# Altium footprint library PCB_LIB.PcbLib: 86 footprints (part 3 of 6)
Each footprint in its own frame and in the unit in brackets; x right, y up, seen from the top. Pads: shape width x height; smd on the part's side, far side on the other; paste and mask are expansions set on the pad; w line width, h text height; cw(c..) or ccw(c..) is an arc to the next point about the centre after c.
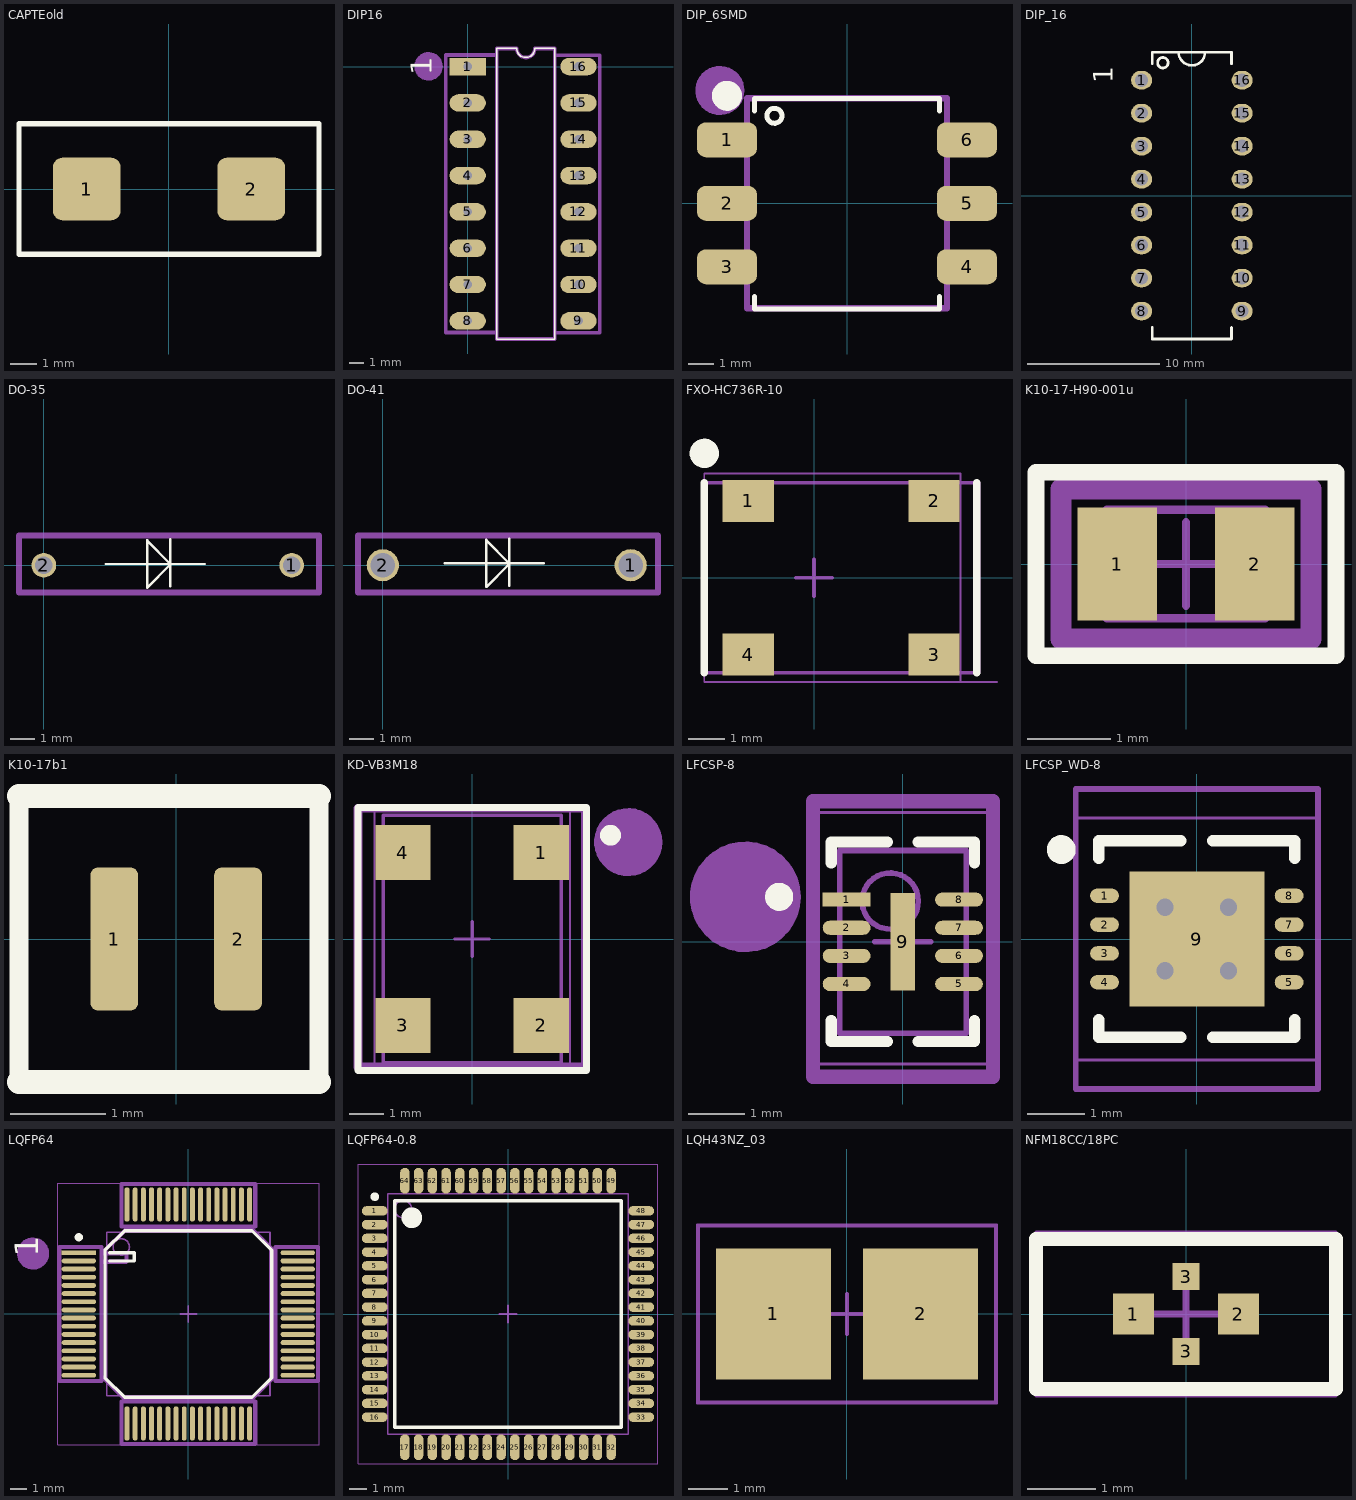
[diagram p2: the footprints below, top view; thin cyan lines are the x and y axes]

## CAPTEold [mm]
pads (2):
  rrect30% 2.6x2.4 smd: 1(-3.15,0) 2(3.15,0)
Top Overlay:
  lines w0.2: -5.75,-2.5 5.75,-2.5 5.75,2.5 -5.75,2.5 -5.75,0 -5.75,-2.5
Top Designator (Mech16):
  text ".Designator" at -5.15,-0.547 h2.5

## DIP16 [mm]
pads (16):
  rect 2.5x1.2 hole 0.6: 1(0,0)
  oval 2.5x1.2 hole 0.6: 2(0,-2.5) 3(0,-5) 4(0,-7.5) 5(0,-10) 6(0,-12.5) 7(0,-15) 8(0,-17.5) 9(7.62,-17.5) 10(7.62,-15) 11(7.62,-12.5) 12(7.62,-10) 13(7.62,-7.5) 14(7.62,-5) 15(7.62,-2.5) 16(7.62,0)
Top Overlay:
  lines w0.1: 2,-18.75 2,1.25 3.375,1.25 ccw(c4,1.25) 4.625,1.25 6,1.25 6,-18.75 2,-18.75
  text "1" at -2,-0.6 h2.5
Top Sborka:
  circle w0.6: c-2.992,0.019 r0.3
  circle w0.25: c-2.692,0.019 r0.09
  circle w0.25: c-2.692,0.019 r0.506
  circle w0.25: c-2.692,0.019 r0.861
  circle w0.25: c-2.692,0.019 r0.292
  circle w0.25: c-2.692,0.019 r0.704
  lines w0.25: -1.5,-18.3 -1.5,0.8 2,0.8 2,-18.3 -1.5,-18.3 ; 2,-18.75 2,1.25 3.375,1.25 ccw(c4,1.25) 4.625,1.25 6,1.25 6,-18.75 2,-18.75 ; 5.999,-18.308 9.1,-18.308 9.1,0.792 5.999,0.792 5.999,-18.308
Top Designator (Mech16):
  text ".Designator" at -1.6,-9.247 h2.5
3D body "dip-16.step": height 5.4, standoff 0, extent -0.16,-18.95 7.76,1.55

## DIP_6SMD [mm] "DIP6 SMD Package"
pads (6):
  rrect50% 2.4x1.4 smd: 1(-4.8,2.54) 2(-4.8,0) 3(-4.8,-2.54) 4(4.8,-2.54) 5(4.8,0) 6(4.8,2.54)
Top Overlay:
  circle w0.6: c-4.8,4.3 r0.3
  circle w0.2: c-2.9,3.5 r0.3
  lines w0.2: -3.7,-3.73 -3.7,-4.23 3.7,-4.23 3.7,-3.73 ; -3.7,3.7 -3.7,4.2 3.7,4.2 3.7,3.7
Top Sborka:
  circle w0.6: c-5.386,4.511 r0.3
  circle w0.25: c-5.086,4.511 r0.09
  circle w0.25: c-5.086,4.511 r0.506
  circle w0.25: c-5.086,4.511 r0.861
  circle w0.25: c-5.086,4.511 r0.292
  circle w0.25: c-5.086,4.511 r0.704
  lines w0.25: -4,-4.2 4,-4.2 4,4.2 -4,4.2 -4,-4.2
Top Designator (Mech16):
  text ".Designator" at -5.15,0.036 h2.5
3D body "User Library-N06C.step": height 3.82, standoff 0, extent -4.94,-3.56 4.94,3.56

## DIP_16 [mm] "DIP, pitch 2.54mm, 300mil Width"
pads (16):
  oval 1.6x1.4 / inner round 1.4 / far side oval 2.2x1.4 hole 1: 1(-3.81,8.75) 2(-3.81,6.25) 3(-3.81,3.75) 4(-3.81,1.25) 5(-3.81,-1.25) 6(-3.81,-3.75) 7(-3.81,-6.25) 8(-3.81,-8.75) 9(3.81,-8.75) 10(3.81,-6.25) 11(3.81,-3.75) 12(3.81,-1.25) 13(3.81,1.25) 14(3.81,3.75) 15(3.81,6.25) 16(3.81,8.75)
Top Overlay:
  circle w0.2: c-2.2,10.07 r0.4
  lines w0.2: -3,-10 -3,-10.87 3,-10.87 3,-10 ; -3,10 -3,10.87 3,10.87 3,10 ; -1,10.87 ccw(c0,10.87) 1,10.87
  text "1" at -5.5,8.5 h2.5
Top Designator (Mech16):
  text ".Designator" at -5.15,-0.572 h2.5
3D body "CircuitWorks-DIP 16 IC.step": height 5.1, standoff -3.3, extent -3.935,-10 3.935,10

## DO-35 [mm]
pads (2):
  round 1 / inner round 1 / far side oval 1.7x1 hole 0.7: 1(10,0) 2(0,0)
Top Overlay:
  lines w0.1: 2.5,0.05 6.5,0.05 ; 5.1,-0.85 5.1,1.05 ; 4.175,-0.9 5.1,0.025 5.1,0.05 4.175,0.975 4.175,1 4.175,0.05 4.175,-0.9
Top Sborka:
  lines w0.1: 4.175,0.975 4.175,1
  lines w0.25: -1,-1.1 11.1,-1.1 11.1,1.2 -1,1.2 -1,-1.1
Top Designator (Mech16):
  text ".Designator" at -0.1,-0.497 h2.5

## DO-41 [mm]
pads (2):
  round 1.3 / inner round 1.3 / far side oval 2x1.3 hole 1: 1(10,0) 2(0,0)
Top Overlay:
  lines w0.1: 2.5,0.075 6.5,0.075 ; 5.1,-0.825 5.1,1.075 ; 4.175,-0.875 4.175,0.075 4.175,1.025 4.175,1 5.1,0.075 5.1,0.05 4.175,-0.875
Top Sborka:
  lines w0.1: 4.175,1 4.175,1.025
  lines w0.25: -1,-1.1 -1,1.2 11.1,1.2 11.1,-1.1 -1,-1.1
Top Designator (Mech16):
  text ".Designator" at -0.075,-0.472 h2.5

## FXO-HC736R-10 [mm] "DFN, 4-Leads, Body 4,95x7,10mm, Pitch 5,08mm, IPC Medium Density"
height 1.4
pads (4):
  rect 1.4x1.15 smd: 1(-1.8,2.1) 2(3.28,2.1) 3(3.28,-2.1) 4(-1.8,-2.1)
Top Overlay:
  circle w0.4: c-3,3.4 r0.2
  lines w0.2: -3,-2.6 -3,2.6 ; 4.45,-2.6 4.45,2.6
Top Sborka:
  lines w0.1: -3,-2.6 4.5,-2.6 4.5,2.6 -3,2.6 -3,-2.6
Mechanical 15:
  lines w0.05: 4,-2.85 4,2.85 -3,2.85 -3,-2.85 5,-2.85
  lines w0.1: -0.5,0 0.5,0 ; 0,-0.5 0,0.5
Top Designator (Mech16):
  text ".Designator" at -5.15,-0.547 h2.5

## K10-17-H90-001u [mm] "Chip Capacitor, 2-Leads, Body 1,60x1,15mm, IPC Medium Density"
height 1
pads (2):
  rect 0.95x1.35 smd: 1(-0.825,0) 2(0.825,0)
Top Overlay:
  lines w0.2: -1.8,-1.1 1.8,-1.1 1.8,1.1 -1.8,1.1 -1.8,-1.1
Top Sborka:
  lines w0.25: -1.5,-0.9 1.5,-0.9 1.5,0.9 -1.5,0.9 -1.5,-0.9
Mechanical 13:
  lines w0.1: -0.95,-0.65 0.95,-0.65 0.95,0.65 -0.95,0.65 -0.95,-0.65
Mechanical 15:
  lines w0.05: -1.55,-0.95 1.55,-0.95 1.55,0.95 -1.55,0.95 -1.55,-0.95
  lines w0.1: -0.5,0 0.5,0 ; 0,-0.5 0,0.5
Top Designator (Mech16):
  text ".Designator" at -5.15,-0.547 h2.5
3D body "K10-17-H90-001u.step": height 1, standoff 0, extent -0.95,-0.65 0.95,0.65

## K10-17b1 [mm]
pads (2):
  rrect30% 0.5x1.5 smd: 1(-0.65,0) 2(0.65,0)
Top Overlay:
  lines w0.2: -1.65,-1.5 -1.65,1 -1.65,1.5 ; 1.5,-1.5 1.5,1.5
  lines w0.254: -1.65,-1.5 1.5,-1.5 ; -1.65,1.5 1.5,1.5
Top Designator (Mech16):
  text ".Designator" at -5.225,-0.547 h2.5

## KD-VB3M18 [mm]
height 1.75
pads (4):
  rect 1.6x1.6 smd: 1(2,2.5) 2(2,-2.5) 3(-2,-2.5) 4(-2,2.5)
Top Overlay:
  circle w0.5: c4,3 r0.05
  lines w0.2: -3.3,-3.8 -3.3,3.8 3.3,3.8 3.3,-3.8 -3.3,-3.8
Top Sborka:
  circle w0.25: c4.51,2.8 r0.704
  circle w0.25: c4.51,2.8 r0.292
  circle w0.25: c4.51,2.8 r0.861
  circle w0.25: c4.51,2.8 r0.506
  circle w0.25: c4.51,2.8 r0.09
  lines w0.25: -3.3,-3.7 3.275,-3.7 3.275,3.775 -3.3,3.775 -3.3,-3.7
Mechanical 13:
  lines w0.1: -2.575,-3.575 -2.575,3.575 2.575,3.575 2.575,-3.575 -2.575,-3.575
Mechanical 15:
  lines w0.05: -2.825,-3.825 -2.825,3.825 2.825,3.825 2.825,-3.825 -2.825,-3.825
  lines w0.1: -0.5,0 0.5,0 ; 0,-0.5 0,0.5
Top Designator (Mech16):
  text ".Designator" at -5.15,-0.547 h2.5
3D body: height 1.75, standoff 0, extent -2.575,-3.575 2.575,3.575

## LFCSP-8 [mm] "QFN, 8-Leads, Body 2,00x3,00mm, Pitch 0,50mm, Thermal Pad 0,00x1,74mm, IPC Medium Density"
height 0.8
pads (9):
  rect 0.85x0.25 smd: 1(-1,0.75)
  oval 0.85x0.25 smd: 2(-1,0.25) 3(-1,-0.25) 4(-1,-0.75) 5(1,-0.75) 6(1,-0.25) 7(1,0.25) 8(1,0.75)
  rect 0.44x1.74 smd: 9(0,0)
Top Overlay:
  circle w0.25: c-2.2,0.8 r0.125
  lines w0.2: -1.275,-1.4 -1.275,-1.775 -0.275,-1.775 ; -1.275,1.4 -1.275,1.775 -0.275,1.775 ; 0.275,-1.775 1.275,-1.775 1.275,-1.4 ; 0.275,1.775 1.275,1.775 1.275,1.4
Top Sborka:
  circle w0.8: c-2.8,0.8 r0.4
  circle w0.6: c-2.8,0.8 r0.3
  circle w0.25: c-2.8,0.8 r0.09
  circle w0.25: c-2.8,0.8 r0.506
  circle w0.25: c-2.8,0.8 r0.861
  circle w0.25: c-2.8,0.8 r0.292
  circle w0.25: c-2.8,0.8 r0.704
  lines w0.25: -1.6,-2.4 1.6,-2.4 1.6,2.5 -1.6,2.5 -1.6,-2.4
Mechanical 13:
  circle w0.1: c-0.225,0.725 r0.5
  lines w0.1: -1.125,-1.625 -1.125,1.625 1.125,1.625 1.125,-1.625 -1.125,-1.625
Mechanical 15:
  lines w0.05: -1.675,-2.175 -1.675,2.3 1.675,2.3 1.675,-2.175 -1.675,-2.175
  lines w0.1: -0.5,0 0.5,0 ; 0,-0.5 0,0.5
Top Designator (Mech16):
  text ".Designator" at 0.547,-5.05 h2.5
3D body "LFCSP-8.step": height 0.8, standoff 0, extent -1.175,-1.625 1.175,1.625

## LFCSP_WD-8 [mm] "QFN, 8-Leads, Body 3,00x3,00mm, Pitch 0,50mm, Thermal Pad 2,34x2,34mm, IPC Medium Density"
height 0.8
pads (9):
  oval 0.5x0.25 smd: 1(-1.6,0.75) 2(-1.6,0.25) 3(-1.6,-0.25) 4(-1.6,-0.75) 5(1.6,-0.75) 6(1.6,-0.25) 7(1.6,0.25) 8(1.6,0.75)
  rect 2.34x2.34 smd: 9(0,0)
via 0.55,-0.55 diameter 0.3 hole 0.3
via -0.55,-0.55 diameter 0.3 hole 0.3
via 0.55,0.55 diameter 0.3 hole 0.3
via -0.55,0.55 diameter 0.3 hole 0.3
Top Overlay:
  circle w0.25: c-2.35,1.55 r0.125
  lines w0.2: -1.7,-1.4 -1.7,-1.7 -0.275,-1.7 ; -1.7,1.4 -1.7,1.7 -0.275,1.7 ; 0.275,-1.7 1.7,-1.7 1.7,-1.4 ; 0.275,1.7 1.7,1.7 1.7,1.4
Top Sborka:
  lines w0.1: -2.1,-2.6 -2.1,2.6 2.1,2.6 2.1,-2.6 -2.1,-2.6
Mechanical 15:
  lines w0.05: -2.1,-2.1 2.1,-2.1 2.1,2.1 -2.1,2.1 -2.1,-2.1
  lines w0.1: -0.5,0 0.5,0 ; 0,-0.5 0,0.5
Top Designator (Mech16):
  text ".Designator" at -5.15,-0.547 h2.5
3D body "LFCSP_WD-8.step": height 0.8, standoff 0, extent -1.55,-1.55 1.55,1.55

## LQFP64 [mm]
height 1.6
pads (64):
  rect 2.1x0.3 smd: 1(-6.7,3.75)
  oval 2.1x0.3 smd: 2(-6.7,3.25) 3(-6.7,2.75) 4(-6.7,2.25) 5(-6.7,1.75) 6(-6.7,1.25) 7(-6.7,0.75) 8(-6.7,0.25) 9(-6.7,-0.25) 10(-6.7,-0.75) 11(-6.7,-1.25) 12(-6.7,-1.75) 13(-6.7,-2.25) 14(-6.7,-2.75) 15(-6.7,-3.25) 16(-6.7,-3.75) 33(6.7,-3.75) 34(6.7,-3.25) 35(6.7,-2.75) 36(6.7,-2.25) 37(6.7,-1.75) 38(6.7,-1.25) 39(6.7,-0.75) 40(6.7,-0.25) 41(6.7,0.25) 42(6.7,0.75) 43(6.7,1.25) 44(6.7,1.75) 45(6.7,2.25) 46(6.7,2.75) 47(6.7,3.25) 48(6.7,3.75)
  oval 0.3x2.1 smd: 17(-3.75,-6.7) 18(-3.25,-6.7) 19(-2.75,-6.7) 20(-2.25,-6.7) 21(-1.75,-6.7) 22(-1.25,-6.7) 23(-0.75,-6.7) 24(-0.25,-6.7) 25(0.25,-6.7) 26(0.75,-6.7) 27(1.25,-6.7) 28(1.75,-6.7) 29(2.25,-6.7) 30(2.75,-6.7) 31(3.25,-6.7) 32(3.75,-6.7) 49(3.75,6.7) 50(3.25,6.7) 51(2.75,6.7) 52(2.25,6.7) 53(1.75,6.7) 54(1.25,6.7) 55(0.75,6.7) 56(0.25,6.7) 57(-0.25,6.7) 58(-0.75,6.7) 59(-1.25,6.7) 60(-1.75,6.7) 61(-2.25,6.7) 62(-2.75,6.7) 63(-3.25,6.7) 64(-3.75,6.7)
Top Overlay:
  circle w0.25: c-6.7,4.7 r0.125
  lines w0.2: -4.8,3.25 -3.3,3.25 -3.3,3.75 -4.8,3.75 ; -5.1,-3.9 -5.1,3.9 -3.9,5.1 3.9,5.1 5.1,3.9 5.1,-3.9 3.9,-5.1 -3.9,-5.1 -5.1,-3.9
  text "1" at -8.7,3.5 h2.5
Top Sborka:
  circle w0.25: c-9.5,3.7 r0.704
  circle w0.25: c-9.5,3.7 r0.292
  circle w0.25: c-9.5,3.7 r0.861
  circle w0.25: c-9.5,3.7 r0.506
  circle w0.25: c-9.5,3.7 r0.09
  lines w0.25: -5.3,3.2 -3.8,3.2 -3.793,3.207 -3.793,3.7 -5.3,3.7 ; -5.3,3.7 -3.7,5.3 3.8,5.3 5.3,3.8 5.3,-3.8 3.8,-5.3 -3.8,-5.3 -5.3,-3.8 -5.3,3.7 ; -7.9,-4.1 -5.3,-4.1 -5.3,4.1 -7.9,4.1 -7.9,-4.1 ; -4.1,-7.95 -4.1,-5.35 4.1,-5.35 4.1,-7.95 -4.1,-7.95 ; -4.1,5.35 -4.1,7.95 4.1,7.95 4.1,5.35 -4.1,5.35 ; 5.35,-4.1 7.95,-4.1 7.95,4.1 5.35,4.1 5.35,-4.1
Mechanical 13:
  circle w0.1: c-4.1,4.1 r0.5
  lines w0.1: -5,-5 -5,5 5,5 5,-5 -5,-5
Mechanical 15:
  lines w0.05: -8,-8 -8,8 8,8 8,-8 -8,-8
  lines w0.1: -0.5,0 0.5,0 ; 0,-0.5 0,0.5
Top Designator (Mech16):
  text ".Designator" at -5.15,-0.547 h2.5
3D body "LQFP64.step": height 1.4, standoff 0, extent -7.4,-7.4 7.4,7.4

## LQFP64-0.8 [mm] "TQFP, 64-Leads, Body 14,00x14,00mm, Pitch 0,80mm, IPC Medium Density"
height 1.2
pads (64):
  oval 1.5x0.55 smd: 1(-7.75,6) 2(-7.75,5.2) 3(-7.75,4.4) 4(-7.75,3.6) 5(-7.75,2.8) 6(-7.75,2) 7(-7.75,1.2) 8(-7.75,0.4) 9(-7.75,-0.4) 10(-7.75,-1.2) 11(-7.75,-2) 12(-7.75,-2.8) 13(-7.75,-3.6) 14(-7.75,-4.4) 15(-7.75,-5.2) 16(-7.75,-6) 33(7.75,-6) 34(7.75,-5.2) 35(7.75,-4.4) 36(7.75,-3.6) 37(7.75,-2.8) 38(7.75,-2) 39(7.75,-1.2) 40(7.75,-0.4) 41(7.75,0.4) 42(7.75,1.2) 43(7.75,2) 44(7.75,2.8) 45(7.75,3.6) 46(7.75,4.4) 47(7.75,5.2) 48(7.75,6)
  oval 0.55x1.5 smd: 17(-6,-7.75) 18(-5.2,-7.75) 19(-4.4,-7.75) 20(-3.6,-7.75) 21(-2.8,-7.75) 22(-2,-7.75) 23(-1.2,-7.75) 24(-0.4,-7.75) 25(0.4,-7.75) 26(1.2,-7.75) 27(2,-7.75) 28(2.8,-7.75) 29(3.6,-7.75) 30(4.4,-7.75) 31(5.2,-7.75) 32(6,-7.75) 49(6,7.75) 50(5.2,7.75) 51(4.4,7.75) 52(3.6,7.75) 53(2.8,7.75) 54(2,7.75) 55(1.2,7.75) 56(0.4,7.75) 57(-0.4,7.75) 58(-1.2,7.75) 59(-2,7.75) 60(-2.8,7.75) 61(-3.6,7.75) 62(-4.4,7.75) 63(-5.2,7.75) 64(-6,7.75)
Top Overlay:
  circle w0.25: c-7.75,6.825 r0.125
  circle w0.6: c-5.6,5.6 r0.3
  lines w0.2: -6.6,-6.6 -6.6,6.6 6.6,6.6 6.6,-6.6 -6.6,-6.6
Top Sborka:
  circle w0.1: c-6.1,6.1 r0.5
  lines w0.1: -7,-7 -7,7 7,7 7,-7 -7,-7
Mechanical 15:
  lines w0.05: -8.725,-8.725 -8.725,8.725 8.725,8.725 8.725,-8.725 -8.725,-8.725
  lines w0.1: -0.5,0 0.5,0 ; 0,-0.5 0,0.5
Top Designator (Mech16):
  text ".Designator" at -5.15,-0.547 h2.5
3D body "TQFP64.step": height 1.2, standoff 0, extent -8,-8 8,8

## LQH43NZ_03 [mm] "Precision Wire Wound Inductor, 2-Leads, Body 4,50x3,25mm, IPC Low Density"
height 2.8
pads (2):
  rect 2.9x3.3 smd: 1(-1.85,0) 2(1.85,0)
Top Sborka:
  lines w0.1: -3.75,-2.225 -3.75,2.225 3.75,2.225 3.75,-2.225 -3.75,-2.225
Mechanical 15:
  lines w0.05: -3.775,-2.25 -3.775,2.25 3.775,2.25 3.775,-2.25 -3.775,-2.25
  lines w0.1: -0.5,0 0.5,0 ; 0,-0.5 0,0.5
Top Designator (Mech16):
  text ".Designator" at -5.15,-0.547 h2.5
3D body "LQH43NZ_03.step": height 2.9, standoff 0, extent -2.35,-1.625 2.35,1.625

## NFM18CC/18PC [mm] "Chip Inductor, 2-Leads, Body 1,60x0,80mm, IPC Medium Density"
height 0.7
pads (4):
  rect 0.6x0.6 smd: 1(-0.77,0) 2(0.77,0)
  rect 0.4x0.4 smd: 3(0,-0.55) 3(0,0.55)
Top Overlay:
  lines w0.2: -2.2,-1.1 2.2,-1.1 2.2,1.1 -2.2,1.1 -2.2,-1.1
Top Sborka:
  lines w0.1: -2.2,-1.1 2.2,-1.1 2.2,1.1 -2.2,1.1 -2.2,-1.1
Mechanical 15:
  lines w0.05: -2.2,-1.2 2.2,-1.2 2.2,1.2 -2.2,1.2 -2.2,-1.2
  lines w0.1: -0.45,0 0.45,0 ; 0,-0.45 0,0.45
Top Designator (Mech16):
  text ".Designator" at -5.15,-0.547 h2.5
3D body: height 0.7, standoff 0, extent 0.25,-0.45 0.85,0.45
3D body: height 0.7, standoff 0, extent -0.85,-0.45 -0.25,0.45
3D body: height 0.7, standoff 0, extent -0.25,-0.45 0.25,0.45